# Altium footprint library PcbLib_HAS_2.0.PcbLib: 31 footprints (part 1 of 2)
Each footprint in its own frame and in the unit in brackets; x right, y up, seen from the top. Pads: shape width x height; smd on the part's side, far side on the other; paste and mask are expansions set on the pad; w line width, h text height; cw(c..) or ccw(c..) is an arc to the next point about the centre after c.
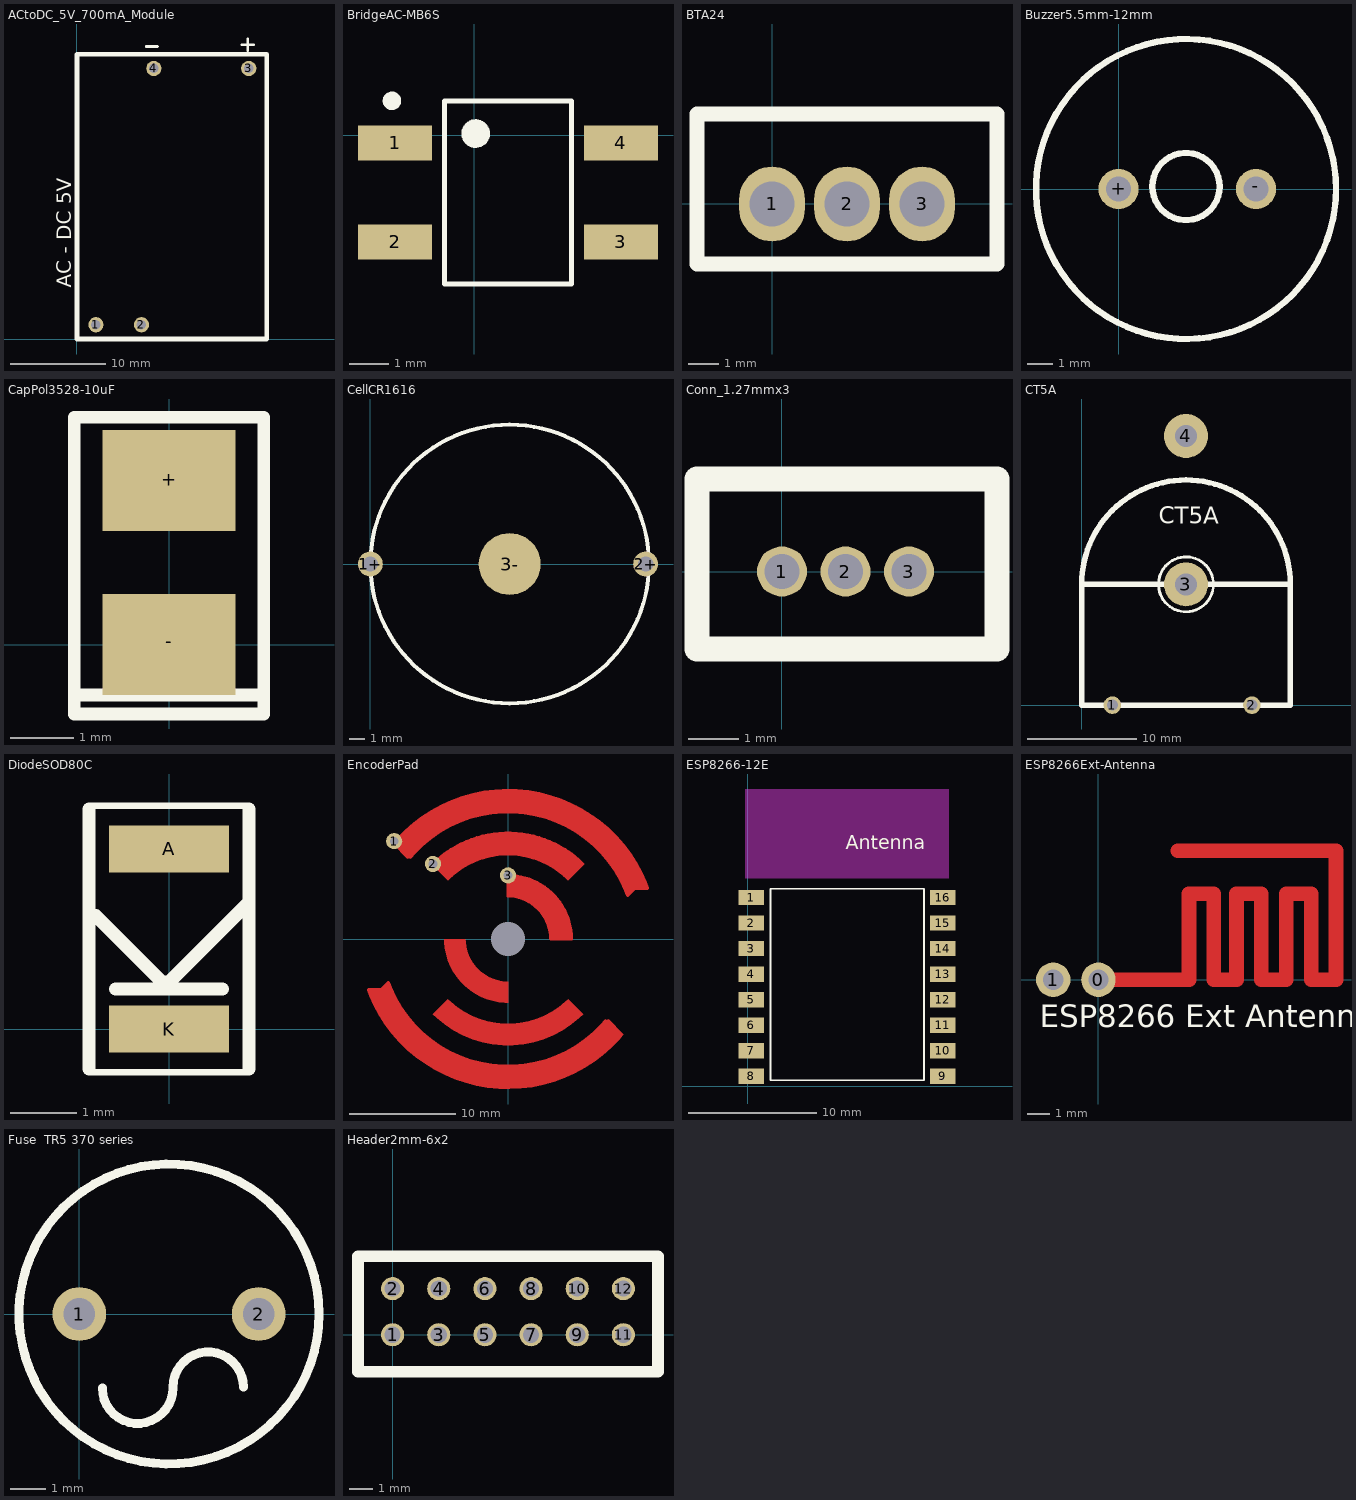
[diagram p0: the footprints below, top view; thin cyan lines are the x and y axes]

## ACtoDC_5V_700mA_Module [mm]
pads (4):
  round 1.6 hole 1: 1(2,1.5) 2(6.8,1.5) 3(18.1,28.5) 4(8.1,28.5)
Top Overlay:
  lines w0.3: 7.3,30.8 8.5,30.8 ; 17.4,31 18.6,31 ; 18,30.4 18,31.6
  lines w0.5: 0,0 0,30 20,30 20,0 0,0
  text "AC - DC 5V" at -0.6,5.4 h1.52

## BridgeAC-MB6S [mm]
pads (4):
  rect 1.9x0.9 smd: 1(-2.031,-0.195) 2(-2.031,-2.735) 3(3.769,-2.735) 4(3.769,-0.195)
Top Overlay:
  circle w0.127: c-2.111,0.885 r0.175
  circle w0.127: c-2.091,0.895 r0.114
  circle w0.127: c-2.081,0.865 r0.022
  circle w0.127: c0.039,0.045 r0.305
  circle w0.127: c0.049,0.055 r0.228
  circle w0.127: c0.059,0.025 r0.112
  circle w0.127: c0.029,0.085 r0.13
  circle w0.127: c0.029,0.075 r0.054
  lines w0.127: -0.756,-3.815 2.494,-3.815 2.494,0.885 -0.756,0.885 -0.756,-3.815

## BTA24 [mm] "Triac Fan Reg"
pads (3):
  oval 2.2x2.5 hole 1.5: 1(0,0) 2(2.5,0) 3(5,0)
Top Overlay:
  lines w0.5: -2.5,-2 7.5,-2 7.5,3 -2.5,3 -2.5,-2

## Buzzer5.5mm-12mm [mm]
pads (2):
  round 1.6 hole 1: +(0,0) -(5.5,0)
Top Overlay:
  circle w0.254: c2.7,0 r6
  circle w0.254: c2.7,0.1 r1.345

## CapPol3528-10uF [mm]
pads (2):
  rect 2.1x1.6 smd: +(0,2.6) -(0,0)
Top Overlay:
  lines w0.2: -1.4,-0.8 1.5,-0.8 ; -1.5,-1.1 1.5,-1.1 1.5,3.6 -1.5,3.6 -1.5,-1.1

## CellCR1616 [mm]
pads (3):
  round 1.6 hole 1: 1+(0,0) 2+(17.78,0)
  round 4 smd: 3-(9,0)
Top Overlay:
  circle w0.254: c9,0 r9

## Conn_1.27mmx3 [mm]
pads (3):
  round 1 hole 0.7: 1(0,0) 2(1.27,0) 3(2.54,0)
Top Overlay:
  lines w0.5: -1.7,-1.55 -1.7,1.85 4.3,1.85 4.3,-1.55 -1.7,-1.55

## CT5A [mm]
pads (4):
  round 1.6 hole 1: 1(2.8,0) 2(15.5,0)
  round 4 hole 2: 3(9.5,11) 4(9.5,24.5)
Top Overlay:
  circle w0.254: c9.5,11 r2.5
  lines w0.5: 0,11 cw(c9.5,11) 19,11 ; 0,11 0,0 19,0 19,11 ; 0,11 19,11
  text "CT5A" at 7,16.5 h1.52

## DiodeSOD80C [mm]
pads (2):
  rect 1.8x0.7 smd: A(0,2.7) K(0,0)
Top Overlay:
  rectangle: -1.2,-0.7 1.2,-0.6
  rectangle: -1.2,3.3 1.2,3.4
  lines w0.2: -1.2,-0.6 -1.2,3.3 ; -1.2,1.7 -1.1,1.7 -0.1,0.7 0,0.7 1.2,1.9 ; -0.8,0.6 0.8,0.6 ; 1.2,-0.6 1.2,3.3

## EncoderPad [mil]
pads (4):
  round 60 hole 32: 1(-422.23,363.17) 2(-278.39,278.39) 3(0,236.22)
  round 0 hole 125.2: SHAFT(0,0)
Top Layer:
  region: 375.16,-300.13 374.21,-299.18 371.6,-298.49 369,-299.19 367.1,-301.11 366.76,-302.41 366.41,-301.05 364.39,-299.1 361.64,-298.48 358.97,-299.38 358.07,-300.46 344.62,-315.79 315.79,-344.62 284.55,-370.83 251.15,-394.22 215.84,-414.61 178.88,-431.84 140.57,-445.79 101.18,-456.34 61.02,-463.43 20.4,-466.98 -20.38,-466.98 -61,-463.43 -101.15,-456.35 -140.54,-445.8 -178.86,-431.85 -215.82,-414.62 -251.13,-394.23 -284.53,-370.85 -315.77,-344.64 -344.61,-315.81 -370.82,-284.57 -394.21,-251.17 -414.6,-215.86 -431.83,-178.9 -439.23,-159.9 -439.23,-159.89 -439.23,-159.88 -439.24,-159.87 -439.68,-158.66 -441.62,-156.96 -444.13,-156.41 -446.61,-157.14 -447.51,-158.06 -472.96,-183.5 -517.94,-183.5 -518.94,-183.5 -520.78,-184.26 -522.19,-185.67 -522.96,-187.52 -522.96,-188.52 -522.96,-188.73 -522.92,-189.17 -522.84,-189.6 -522.73,-190.02 -522.65,-190.23 -515.54,-209.79 -498.42,-247.73 -478.51,-284.28 -455.93,-319.24 -430.8,-352.42 -403.25,-383.63 -373.46,-412.69 -341.57,-439.45 -307.78,-463.75 -272.26,-485.45 -235.22,-504.44 -196.87,-520.61 -157.41,-533.86 -117.08,-544.13 -76.09,-551.36 -34.67,-555.5 6.94,-556.54 48.51,-554.47 89.81,-549.29 130.61,-541.04 170.67,-529.77 209.79,-515.54 247.73,-498.42 284.28,-478.51 319.24,-455.93 352.42,-430.8 383.63,-403.25 412.69,-373.46 426.07,-357.52 426.68,-356.79 427.28,-355 427.2,-353.12 426.43,-351.39 425.76,-350.73
  region: 222.71,-222.71 278.39,-278.39 264.71,-292.06 234.81,-316.6 202.65,-338.1 168.53,-356.33 132.79,-371.13 95.78,-382.36 57.84,-389.91 19.34,-393.7 -19.34,-393.7 -57.84,-389.91 -95.78,-382.36 -132.79,-371.13 -168.53,-356.33 -202.65,-338.1 -234.81,-316.6 -264.71,-292.06 -278.39,-278.39 -222.71,-222.71 -211.51,-233.37 -187.62,-252.98 -161.92,-270.15 -134.66,-284.72 -106.11,-296.55 -76.53,-305.52 -46.21,-311.55 -15.45,-314.58 15.45,-314.58 46.21,-311.55 76.53,-305.52 106.11,-296.55 134.66,-284.72 161.92,-270.15 187.62,-252.98 211.51,-233.37
  region: -157.99,-0.01 -157.53,-10.36 -154.63,-30.89 -149.12,-50.86 -141.08,-69.97 -130.65,-87.88 -118.01,-104.3 -103.36,-118.96 -86.94,-131.61 -69.03,-142.04 -49.93,-150.09 -29.96,-155.62 -9.44,-158.53 0.92,-158.98 0.92,-235.3 0,-236.22 -11.6,-236.22 -34.7,-233.95 -57.47,-229.42 -79.68,-222.68 -101.12,-213.8 -121.59,-202.86 -140.89,-189.96 -158.83,-175.24 -175.24,-158.83 -189.96,-140.89 -202.86,-121.59 -213.8,-101.12 -222.68,-79.68 -229.42,-57.47 -233.95,-34.7 -236.22,-11.6 -236.22,0 -236.21,-0.01
  region: 157.99,0.01 157.53,10.36 154.63,30.89 149.12,50.86 141.08,69.97 130.65,87.88 118.01,104.3 103.36,118.96 86.94,131.61 69.03,142.04 49.93,150.09 29.96,155.62 9.44,158.53 -0.92,158.98 -0.92,235.3 0,236.22 11.6,236.22 34.7,233.95 57.47,229.42 79.68,222.68 101.12,213.8 121.59,202.86 140.89,189.96 158.83,175.24 175.24,158.83 189.96,140.89 202.86,121.59 213.8,101.12 222.68,79.68 229.42,57.47 233.95,34.7 236.22,11.6 236.22,0 236.21,0.01
  region: -222.71,222.71 -278.39,278.39 -264.71,292.06 -234.81,316.6 -202.65,338.1 -168.53,356.33 -132.79,371.13 -95.78,382.36 -57.84,389.91 -19.34,393.7 19.34,393.7 57.84,389.91 95.78,382.36 132.79,371.13 168.53,356.33 202.65,338.1 234.81,316.6 264.71,292.06 278.39,278.39 222.71,222.71 211.51,233.37 187.62,252.98 161.92,270.15 134.66,284.72 106.11,296.55 76.53,305.52 46.21,311.55 15.45,314.58 -15.45,314.58 -46.21,311.55 -76.53,305.52 -106.11,296.55 -134.66,284.72 -161.92,270.15 -187.62,252.98 -211.51,233.37
  region: -375.16,300.13 -374.21,299.18 -371.6,298.49 -369,299.19 -367.1,301.11 -366.76,302.41 -366.41,301.05 -364.39,299.1 -361.64,298.48 -358.97,299.38 -358.07,300.46 -344.62,315.79 -315.79,344.62 -284.55,370.83 -251.15,394.22 -215.84,414.61 -178.88,431.84 -140.57,445.79 -101.18,456.34 -61.02,463.43 -20.4,466.98 20.38,466.98 61,463.43 101.15,456.35 140.54,445.8 178.86,431.85 215.82,414.62 251.13,394.23 284.53,370.85 315.77,344.64 344.61,315.81 370.82,284.57 394.21,251.17 414.6,215.86 431.83,178.9 439.23,159.9 439.23,159.89 439.23,159.88 439.24,159.87 439.68,158.66 441.62,156.96 444.13,156.41 446.61,157.14 447.51,158.06 472.96,183.5 517.94,183.5 518.94,183.5 520.78,184.26 522.19,185.67 522.96,187.52 522.96,188.52 522.96,188.73 522.92,189.17 522.84,189.6 522.73,190.02 522.65,190.23 515.54,209.79 498.42,247.73 478.51,284.28 455.93,319.24 430.8,352.42 403.25,383.63 373.46,412.69 341.57,439.45 307.78,463.75 272.26,485.45 235.22,504.44 196.87,520.61 157.41,533.86 117.08,544.13 76.09,551.36 34.67,555.5 -6.94,556.54 -48.51,554.47 -89.81,549.29 -130.61,541.04 -170.67,529.77 -209.79,515.54 -247.73,498.42 -284.28,478.51 -319.24,455.93 -352.42,430.8 -383.63,403.25 -412.69,373.46 -426.07,357.52 -426.68,356.79 -427.28,355 -427.2,353.12 -426.43,351.39 -425.76,350.73
  lines w10: -422.23,363.17 -422.23,354.29 ; -412.52,354.29 -422.23,354.29 ; -0.92,235.3 -0.92,158.98 cw(c-2.83,-1.83) 157.99,0.01 236.21,0.01 ccw(c0,0) 0,236.22 ; -422.23,354.29 cw(c0,0) 517.94,188.52 470.88,188.52 443.95,161.58 ccw(c0,0) -361.91,303.68 -371.62,303.68 -422.23,354.29 ; -278.39,278.39 cw(c0,0) 278.39,278.39 222.71,222.71 ccw(c0,0) -222.71,222.71 -278.39,278.39

## ESP8266-12E [mm]
pads (16):
  rect 2x1.2 smd: 1(0.27,14.801) 2(0.27,12.801) 3(0.27,10.801) 4(0.27,8.801) 5(0.27,6.801) 6(0.27,4.801) 7(0.27,2.801) 8(0.27,0.801) 9(15.27,0.801) 10(15.27,2.801) 11(15.27,4.801) 12(15.27,6.801) 13(15.27,8.801) 14(15.27,10.801) 15(15.27,12.801) 16(15.27,14.801)
Top Layer keep-out:
  rectangle: -0.23,16.301 15.77,23.301
Top Overlay:
  lines w0.127: 1.77,0.501 1.77,15.501 13.77,15.501 13.77,0.501 1.77,0.501 ; 1.8,0.5 1.8,15.5 13.8,15.5 13.8,0.5 1.8,0.5
  text "Antenna" at 7.67,18.601 h1.08

## ESP8266-noGNDPlane [mm]

## ESP8266Ext-Antenna [mil]
pads (2):
  round 60 hole 35.43: 0(0,0) 1(-78.74,0)
Top Layer:
  lines w25.59: 0,0 157.48,0 157.48,149.61 200.79,149.61 200.79,0 240.16,0 240.16,149.61 283.46,149.61 283.46,0 326.77,0 326.77,149.61 370.08,149.61 370.08,0 413.39,0 413.39,224.41 137.8,224.41
Top Overlay:
  text "ESP8266 Ext Antenna" at -102.36,-82.68 h39.37

## Fuse  TR5 370 series [mil]
height 314.96
pads (2):
  round 60 hole 35.43: 1(0,0) 2(200,0)
Top Overlay:
  circle w10: c100,0 r167.32
  lines w10: 25.59,-82.68 ccw(c64.96,-82.68) 104.33,-82.68 ; 104.33,-81.69 cw(c143.7,-81.69) 183.07,-81.69

## Header2mm-6x2 [mm] "Male Header power board"
pads (12):
  round 1 hole 0.7: 1(0,0) 2(0,2) 3(2,0) 4(2,2) 5(4,0) 6(4,2) 7(6,0) 8(6,2) 9(8,0) 10(8,2) 11(10,0) 12(10,2)
Top Overlay:
  lines w0.5: -1.5,-1.6 11.5,-1.6 11.5,3.4 -1.5,3.4 -1.5,-1.6

## Header2mm_2x6 [mm]